# Altium footprint library lt3001-eval-new.PcbLib: 3 footprints
Each footprint in its own frame and in the unit in brackets; x right, y up, seen from the top. Pads: shape width x height; smd on the part's side, far side on the other; paste and mask are expansions set on the pad; w line width, h text height; cw(c..) or ccw(c..) is an arc to the next point about the centre after c.
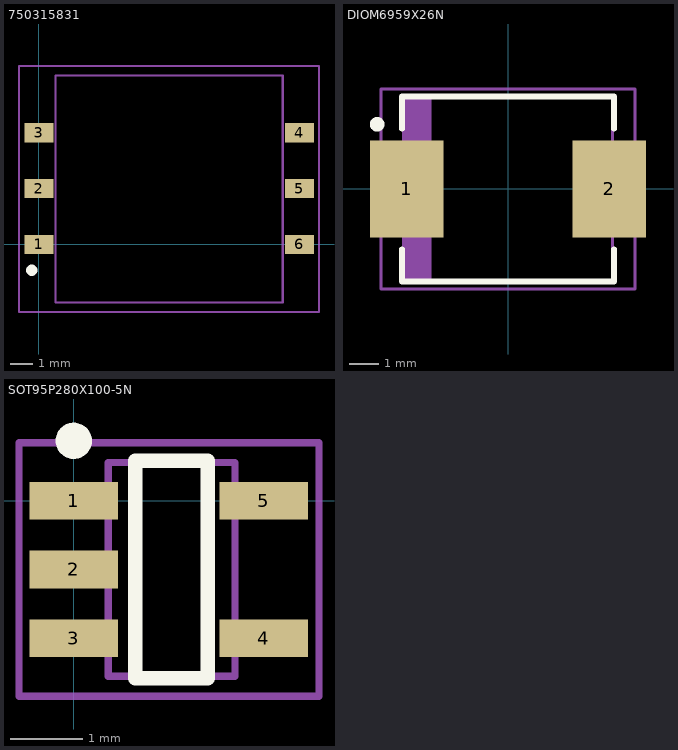
[diagram p0: the footprints below, top view; thin cyan lines are the x and y axes]

## 750315831 [mm]
height 9.14
pads (6):
  rect 1.3x0.86 smd: 1(0,0) 2(0,2.5) 3(0,5) 4(11.65,5) 5(11.65,2.5) 6(11.65,0)
Top Overlay:
  circle w0.25: c-0.325,-1.152 r0.125
Mechanical 13:
  lines w0.1: 0.741,-2.596 0.741,7.564 10.901,7.564 10.901,-2.596 0.741,-2.596
Mechanical 15:
  lines w0.1: -0.894,-3.012 -0.894,7.984 12.527,7.984 12.527,-3.02 -0.894,-3.012
3D body: height 9.14, standoff 0.1, extent 0.741,-2.596 10.901,7.564

## DIOM6959X26N [mm] "Molded Diode, 2-Leads, Body 6.86x5.91mm, IPC Medium Density"
height 2.62
pads (2):
  rect 2.5x3.3 smd: 1(-3.45,0) 2(3.45,0)
Top Overlay:
  circle w0.25: c-4.45,2.2 r0.125
  lines w0.2: -3.6,-2.05 -3.6,-3.15 3.6,-3.15 3.6,-2.05 ; -3.6,2.05 -3.6,3.15 3.6,3.15 3.6,2.05
Mechanical 13:
  rectangle: -3.555,-3.11 -2.599,3.11
  lines w0.1: -3.555,-3.11 3.555,-3.11 3.555,3.11 -3.555,3.11 -3.555,-3.11
Mechanical 15:
  lines w0.1: -4.325,-3.4 4.325,-3.4 4.325,3.4 -4.325,3.4 -4.325,-3.4
3D body: height 2.62, standoff 0, extent -3.555,-3.11 3.555,3.11

## SOT95P280X100-5N [mm] "SOT23, 5-Leads, Body 2.90x2.80mm, Pitch 0.95mm, IPC Medium Density"
height 1
pads (5):
  rect 1.22x0.52 smd: 1(0,0) 2(0,-0.95) 3(0,-1.9) 4(2.62,-1.9) 5(2.62,0)
Top Overlay:
  circle w0.25: c0,0.825 r0.125
  lines w0.2: 0.85,-2.45 1.85,-2.45 1.85,0.55 0.85,0.55 0.85,-2.45
Mechanical 13:
  lines w0.1: 0.475,-2.425 0.475,0.525 2.225,0.525 2.225,-2.425 0.475,-2.425
Mechanical 15:
  lines w0.1: -0.756,-2.7 -0.756,0.8 3.385,0.8 3.385,-2.7 -0.756,-2.7
3D body: height 1, standoff 0.1, extent 0.475,-2.425 2.225,0.525